# Altium footprint library AP65111AWU-7.PcbLib: 2 footprints
Each footprint in its own frame and in the unit in brackets; x right, y up, seen from the top. Pads: shape width x height; smd on the part's side, far side on the other; paste and mask are expansions set on the pad; w line width, h text height; cw(c..) or ccw(c..) is an arc to the next point about the centre after c.
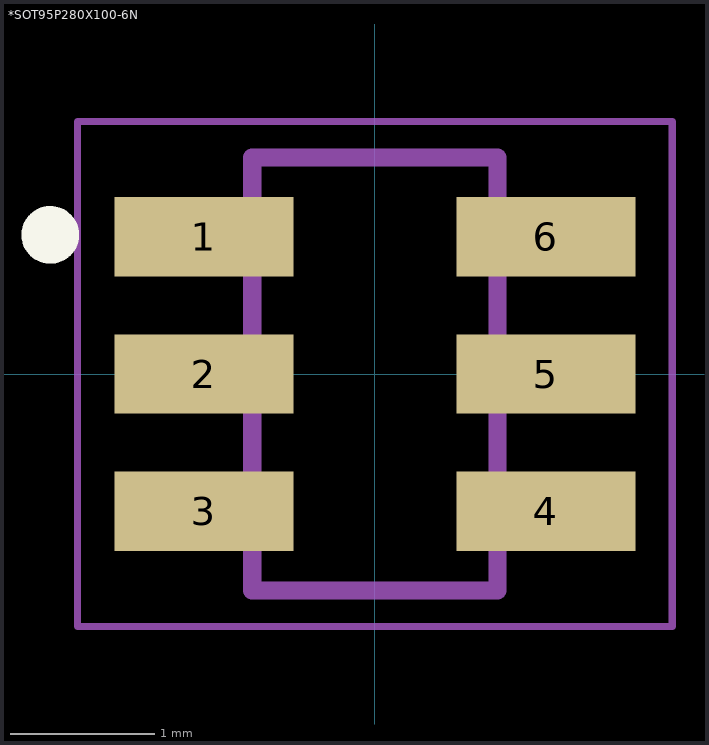
[diagram p0: the footprints below, top view; thin cyan lines are the x and y axes]

## *SOT95P280X100-6N [mm]
pads (6):
  rect 1.24x0.55 smd: 1(-1.185,0.95) 2(-1.185,0) 3(-1.185,-0.95) 4(1.185,-0.95) 5(1.185,0) 6(1.185,0.95)
Top Overlay:
  circle w0.2: c-2.249,0.964 r0.1
Mechanical 4:
  lines w0.127: -0.85,-1.5 0.85,-1.5 ; -0.85,-1.5 -0.85,1.5 ; -0.85,-1.5 0.85,-1.5 ; -0.85,-1.5 -0.85,1.5 ; -0.85,1.5 0.85,1.5 ; -0.85,1.5 0.85,1.5 ; 0.85,-1.5 0.85,1.5 ; 0.85,-1.5 0.85,1.5
Mechanical 16:
  lines w0.05: -2.06,-1.75 -2.06,1.75 2.06,1.75 2.06,-1.75 -2.06,-1.75

## PCBComponent_1 [mm]